# Altium schematic symbol library NautilusKB.SchLib: 30 symbols
Pins are listed as number, name and electrical type; pins without a type are passive.

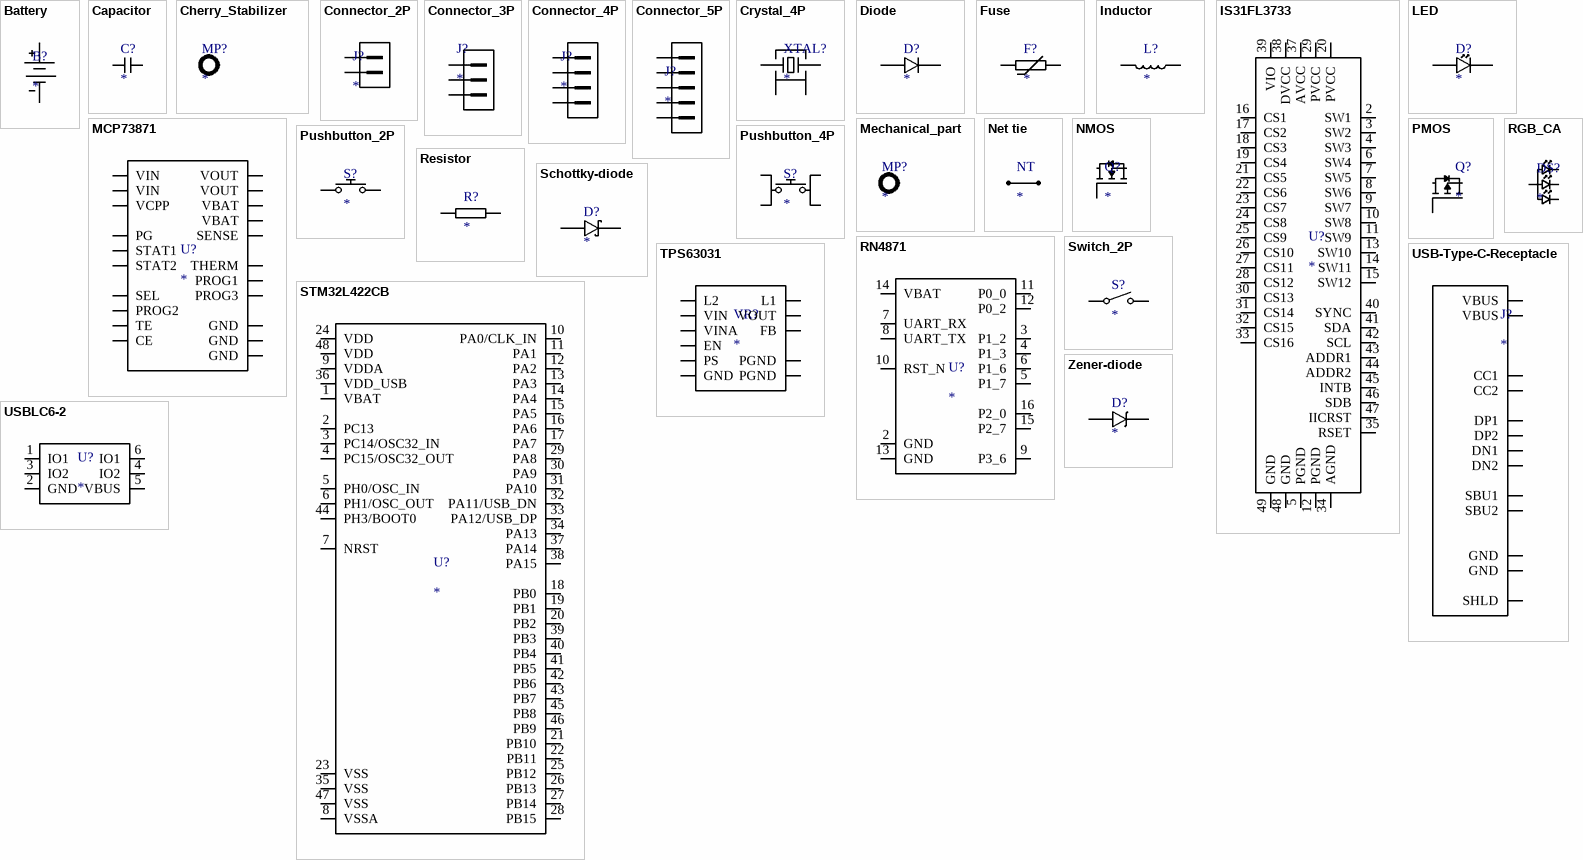
[diagram p0: symbols Battery to Zener-diode]

## Battery
designator B?  (mechanical)
pins: 1, 2

## Capacitor
designator C?
pins: 1, 2

## Cherry_Stabilizer
designator MP?

## Connector_2P
designator J?
pins: 1, 2

## Connector_3P
designator J?
pins: 1, 2, 3

## Connector_4P
designator J?
pins: 1, 2, 3, 4

## Connector_5P
designator J?
pins: 1, 2, 3, 4, 5

## Crystal_4P
designator XTAL?
pins: 1, 2 4, 3, 4 3

## Diode
designator D?
pins: A, K

## Fuse
designator F?
pins: 1, 2

## Inductor
designator L?
pins: 1, 2

## IS31FL3733
designator U?
pins: 2 SW1, 3 SW2, 4 SW3, 5 PGND, 6 SW4, 7 SW5, 8 SW6, 9 SW7, 10 SW8, 11 SW9, 12 PGND, 13 SW10, 14 SW11, 15 SW12, 16 CS1, 17 CS2, 18 CS3, 19 CS4, 20 PVCC, 21 CS5, 22 CS6, 23 CS7, 24 CS8, 25 CS9, 26 CS10, 27 CS11, 28 CS12, 29 PVCC, 30 CS13, 31 CS14, 32 CS15, 33 CS16, 34 AGND, 35 RSET, 37 AVCC, 38 DVCC, 39 VIO, 40 SYNC, 41 SDA, 42 SCL, 43 ADDR1, 44 ADDR2, 45 INTB, 46 SDB, 47 IICRST, 48 GND, 49 GND

## LED
designator D?
pins: A, K

## MCP73871
designator U?
pins: 1 VOUT, 2 VCPP, 3 SEL, 4 PROG2, 5 THERM, 6 PG, 7 STAT2, 8 STAT1, 9 TE, 10 GND, 11 GND, 12 PROG3, 13 PROG1, 14 VBAT, 15 VBAT, 16 SENSE, 17 CE, 18 VIN, 19 VIN, 20 VOUT, 21 GND

## Mechanical_part
designator MP?

## Net tie
designator NT  (net tie, no BOM)
pins: 1, 2

## NMOS
designator Q?
pins: 1, 2, 3

## PMOS
designator Q?
pins: 1, 2, 3

## Pushbutton_2P
designator S?
pins: 1, 2

## Pushbutton_4P
designator S?
pins: 1, 2, 3, 4

## Resistor
designator R?
pins: 1, 2

## RGB_CA
designator DS?
pins: 1, 2, 3, 4

## RN4871
designator U?
pins: 2 GND, 3 P1_2, 4 P1_3, 5 P1_7, 6 P1_6, 7 UART_RX, 8 UART_TX, 9 P3_6, 10 RST_N, 11 P0_0, 12 P0_2, 13 GND, 14 VBAT, 15 P2_7, 16 P2_0

## Schottky-diode
designator D?
pins: A, K

## STM32L422CB
designator U?
pins: 1 VBAT, 2 PC13, 3 PC14/OSC32_IN, 4 PC15/OSC32_OUT, 5 PH0/OSC_IN, 6 PH1/OSC_OUT, 7 NRST, 8 VSSA, 9 VDDA, 10 PA0/CLK_IN, 11 PA1, 12 PA2, 13 PA3, 14 PA4, 15 PA5, 16 PA6, 17 PA7, 18 PB0, 19 PB1, 20 PB2, 21 PB10, 22 PB11, 23 VSS, 24 VDD, 25 PB12, 26 PB13, 27 PB14, 28 PB15, 29 PA8, 30 PA9, 31 PA10, 32 PA11/USB_DN, 33 PA12/USB_DP, 34 PA13, 35 VSS, 36 VDD_USB, 37 PA14, 38 PA15, 39 PB3, 40 PB4, 41 PB5, 42 PB6, 43 PB7, 44 PH3/BOOT0, 45 PB8, 46 PB9, 47 VSS, 48 VDD

## Switch_2P
designator S?
pins: 1, 2

## TPS63031
designator VR?
pins: 1 VOUT, 2 L2, 3 PGND, 4 L1, 5 VIN, 6 EN, 7 PS, 8 VINA, 9 GND, 10 FB, 11 PGND

## USB-Type-C-Receptacle
designator J?
pins: A1 GND, A4 VBUS, A5 CC1, A6 DP1, A7 DN1, A8 SBU1, B1 GND, B4 VBUS, B5 CC2, B6 DP2, B7 DN2, B8 SBU2, SHLD

## USBLC6-2
designator U?
pins: 1 IO1, 2 GND, 3 IO2, 4 IO2, 5 VBUS, 6 IO1

## Zener-diode
designator D?
pins: A, K